# Altium schematic symbol library IC_TI_TPS2003CDRCR.SchLib: 1 symbol
Pins are listed as number, name and electrical type; pins without a type are passive.

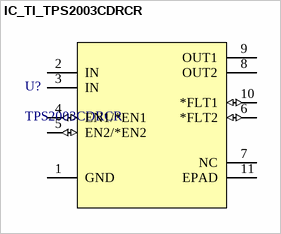
[diagram p0: symbol IC_TI_TPS2003CDRCR]

## IC_TI_TPS2003CDRCR
designator U?, comment TPS2003CDRCR
2-ch, 2A loading, 4.5-5.5V, 70mÎ© USB power switch, active-high, output discharge, reverse blocking 10-VSON -40 to 125; Manufacturer_Name: Texas Instruments; Copyright: Copyright (C) 2026 Ultra Librarian. All rights reserved.; Manufacturer_Part_Number: TPS2003CDRCR; RefDes: RefDes; Type: Type
footprint IC_TI_TPS2003CDRCR
pins: 1 GND (power), 2 IN (power), 3 IN (power), 4 EN1/*EN1 (io), 5 EN2/*EN2 (io), 6 *FLT2 (io), 7 NC, 8 OUT2 (power), 9 OUT1 (power), 10 *FLT1 (io), 11 EPAD